# EAGLE library part MPU9250 (library MPU9250)
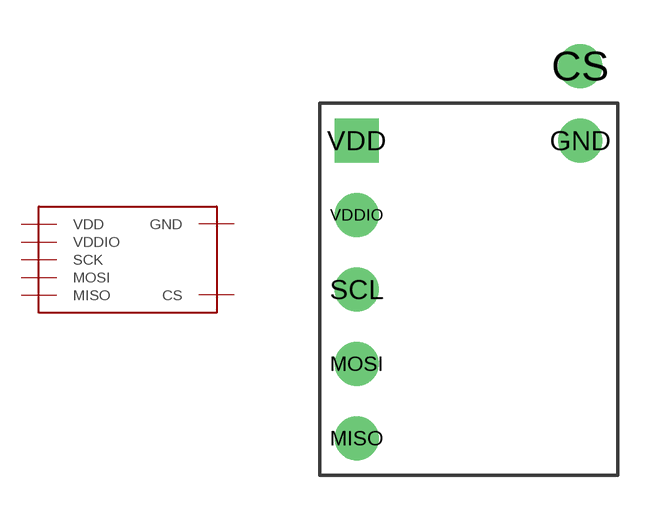
[diagram p0: symbol with the pads of MPU9250_DIP; footprint MPU9250_DIP]

Designator prefix -

## MPU9250  [MPU9250_DIP]
CS  CS
GND  GND
MISO  MISO
MOSI  MOSI
SCL  SCK
VDD  VDD
VDDIO  VDDIO

## Footprint MPU9250_DIP (pad centres in mm)
drill 1: CS 3.81,7.62; GND 3.81,5.08; MISO -3.81,-5.08; MOSI -3.81,-2.54; SCL -3.81,0; VDDIO -3.81,2.54
drill 1 square: VDD -3.81,5.08